# Altium schematic symbol library IMBG120R026M2H.SchLib: 1 symbol
Pins are listed as number, name and electrical type; pins without a type are passive.

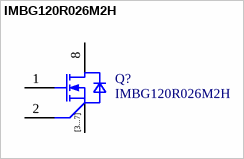
[diagram p0: symbol IMBG120R026M2H]

## IMBG120R026M2H
designator Q?
Insulated-Gate Field-Effect Transistor (IGFET), N-Channel, Enhancement, Body Diode, Pin 1 Gate, 2 Sense, 3 Source, 4 Source, 5 Source, 6 Source, 7 Source, 8 Drain, 8 Pins; Manufacturer: Infineon Technologies; Manufacturer Order Number: IMBG120R026M2H; Package Reference: PG-TO263-7-12
footprint TO127P1500X470-8N-2-V1 (TO,1.27mm pitch;7 pin,15.00mm L X 9.25mm W X 4.70mm H body)
pins: 1 GATE, 2 SENSE, 3 SOURCE1, 4 SOURCE2, 5 SOURCE3, 6 SOURCE4, 7 SOURCE5, 8 DRAIN
text: [3...7]